# Altium footprint library Capacitor2.PcbLib: 60 footprints (part 1 of 4)
Each footprint in its own frame and in the unit in brackets; x right, y up, seen from the top. Pads: shape width x height; smd on the part's side, far side on the other; paste and mask are expansions set on the pad; w line width, h text height; cw(c..) or ccw(c..) is an arc to the next point about the centre after c.
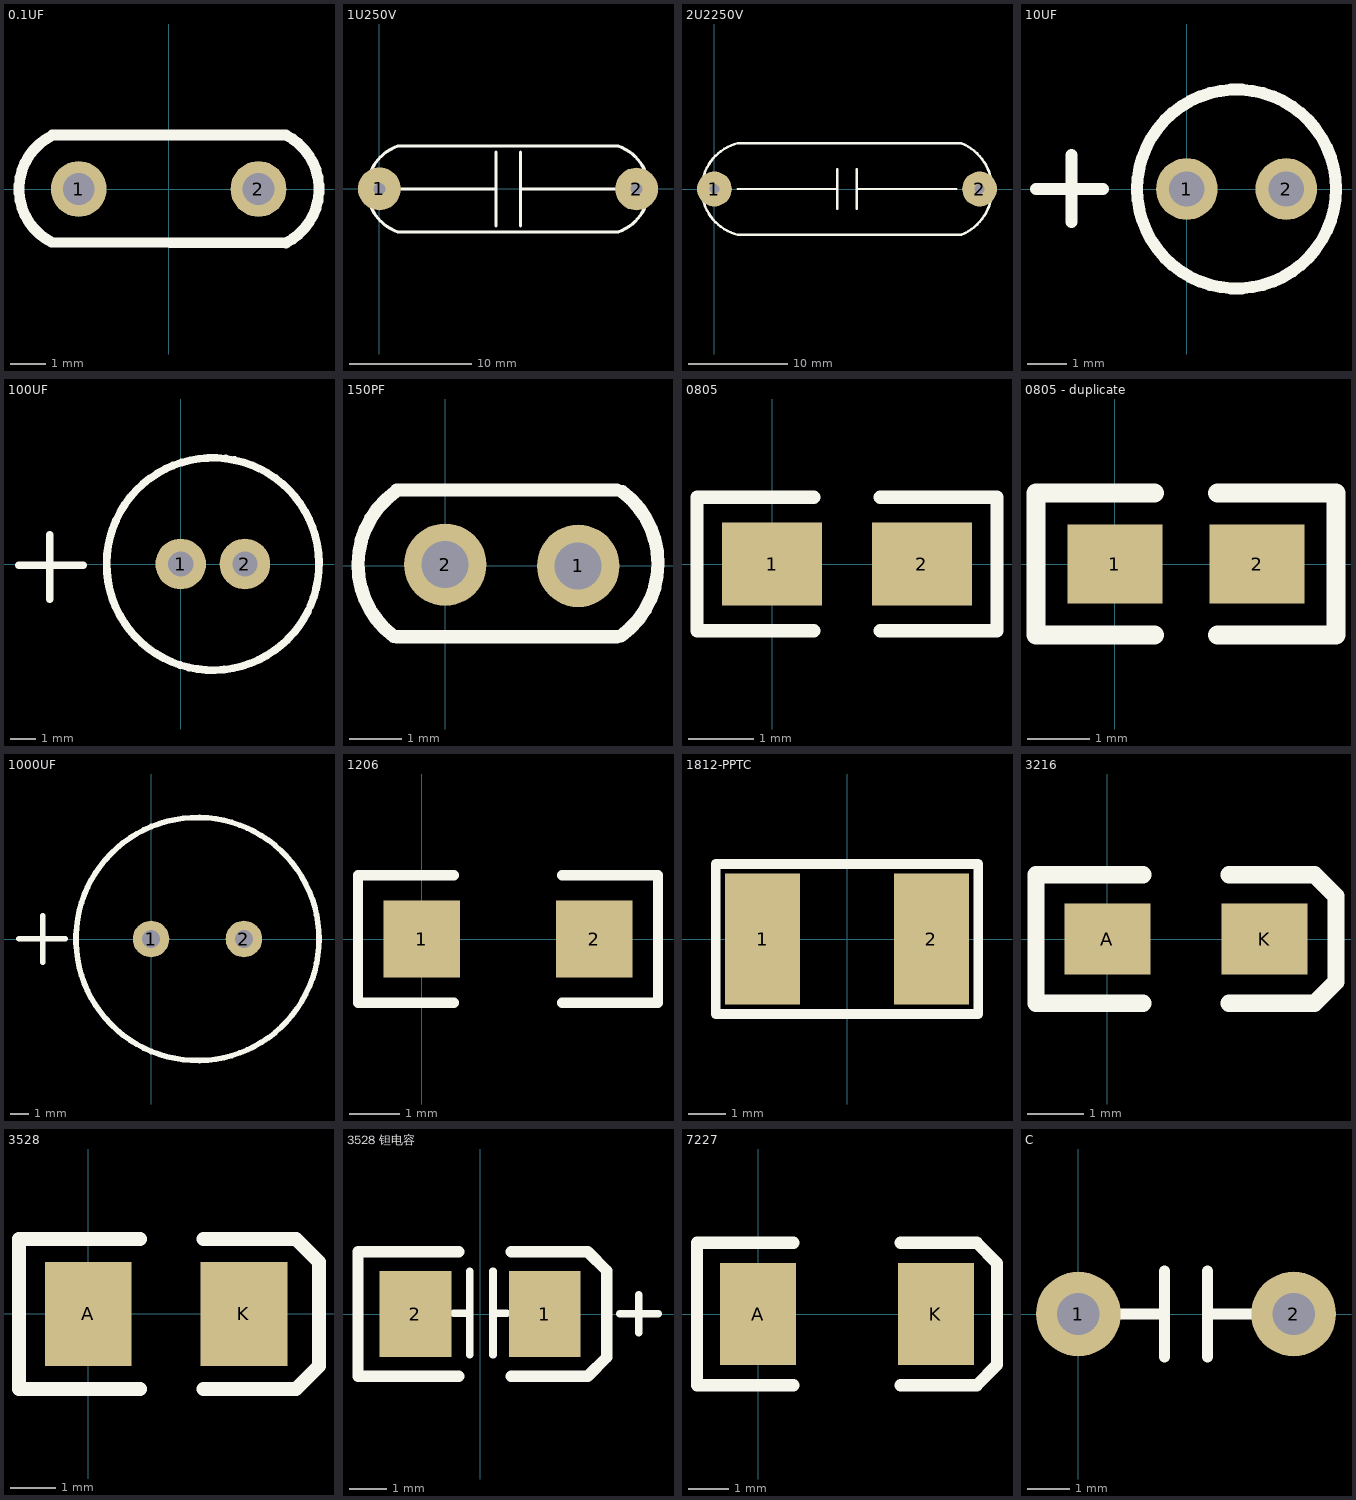
[diagram p0: the footprints below, top view; thin cyan lines are the x and y axes]

## 0.1UF [mil]
pads (2):
  round 62 hole 35.43: 1(-100,0) 2(100,0)
Top Overlay:
  lines w12: -130.04,59.28 ccw(c-100,0) -130.04,-59.28 130.54,-59.99 ccw(c100,0) 130.54,59.99 -129.42,60.22

## 1U250V [mm]
pads (2):
  round 3.5 hole 1: 1(0,0) 2(21.007,-0.01)
Top Overlay:
  lines w0.25: 0.007,-0.01 9.507,-0.01 ; 9.507,-3.01 9.507,2.99 ; 11.507,-3.01 11.507,2.99 ; 11.507,-0.01 21.007,-0.01 ; 1.507,-3.51 cw(c2.707,-0.01) 1.507,3.49 19.507,3.49 cw(c18.307,-0.01) 19.507,-3.51 1.507,-3.51

## 2U2250V [mm]
pads (2):
  round 3.5 hole 1: 1(0,0) 2(26.67,0)
Top Overlay:
  lines w0.25: 2.335,0 12.335,0 ; 12.335,-2 12.335,2 ; 14.335,-2 14.335,2 ; 14.335,0 24.335,0 ; 2.335,-4.6 cw(c3.474,0) 2.335,4.6 24.835,4.6 cw(c22.974,0) 24.835,-4.6 2.335,-4.6

## 10UF [mil]
pads (2):
  round 62 hole 35.43: 1(0,0) 2(100,0)
Top Overlay:
  circle w12: c50,0 r100
  lines w12: -151.69,0 -84.17,0 ; -115.87,-33.27 -115.87,34.25

## 100UF [mm]
pads (2):
  round 2 hole 1: 1(0,0) 2(2.54,0)
Top Overlay:
  lines w0.305: -6.395,-0.05 -3.855,-0.05 ; -5.175,-1.395 -5.175,1.145 ; 5.049,-1.834 cw(c1.27,0) 5.129,-1.658

## 150PF [mil]
pads (2):
  round 62 hole 35.43: 1(100,0) 2(0,1)
Top Overlay:
  lines w10: -38.7,-52.9 cw(c1.97,1) -37.75,55.6 ; -36.42,-53.15 128.94,-53.15 ; -36.42,57.09 128.94,57.09 ; 132.24,-52.64 ccw(c92.52,1.95) 133.18,55.85

## 0805 [mil]
pads (2):
  rect 60x50 smd: 1(0,0) 2(90,0)
Top Overlay:
  lines w8: 25,-40 -45,-40 -45,40 25,40 ; 65,-40 135,-40 135,40 65,40

## 0805 - duplicate [mil]
pads (2):
  rect 60x50 smd: 1(0,0) 2(90,0)
Top Overlay:
  lines w12: 25,-45 -50,-45 -50,45 25,45 ; 65,-45 140,-45 140,45 65,45

## 1000UF [mm]
pads (2):
  round 2 hole 1: 1(0,0) 2(5.08,0)
Top Overlay:
  circle w0.305: c2.54,0 r6.65
  lines w0.305: -7.227,0.025 -4.687,0.025 ; -5.927,-1.27 -5.927,1.27

## 1206 [mil]
pads (2):
  rect 60x60 smd: 1(0,0) 2(135,0)
Top Overlay:
  lines w8: 25,-50 -50,-50 -50,50 25,50 ; 110,-50 185,-50 185,50 110,50

## 1812-PPTC [mm]
height 1
pads (2):
  rect 2x3.5 smd: 1(-2.25,0) 2(2.25,0)
Top Overlay:
  lines w0.254: -3.5,-2 3.5,-2 3.5,2 -3.5,2 -3.5,-2
3D body "User Library-fuse1812.STEP": height 1.32, standoff 0, extent -2.41,-1.61 2.41,1.61

## 3216 [mil]
pads (2):
  rect 60x50 smd: A(0,0) K(110,0)
Top Overlay:
  lines w12: 25,-45 -50,-45 -50,45 25,45 ; 85,-45 145,-45 160,-30 160,30 145,45 85,45

## 3528 [mil]
pads (2):
  rect 75x90 smd: A(0,0) K(135,0)
Top Overlay:
  lines w12: 45,-65 -60,-65 -60,65 45,65 ; 100,-65 180,-65 200,-45 200,45 180,65 100,65

## 3528 钽电容 [mil]
height 118.11
pads (2):
  rect 75x90 smd: 1(67.5,0) 2(-67.5,0)
Top Overlay:
  lines w7.87: 145.85,0.2 185.85,0.2 ; 165.85,-19.8 165.85,20.2
  lines w8: -27.38,0.79 -10.65,0.79 ; -10.65,-42.72 -10.65,44.69 ; 13.56,-42.72 13.56,44.69 ; 13.56,0.79 27.74,0.79
  lines w12: -22.5,-65 -127.5,-65 -127.5,65 -22.5,65 ; 32.5,-65 112.5,-65 132.5,-45 132.5,45 112.5,65 32.5,65
3D body "3528.STEP": height 82.22, standoff -0.46, extent -72.65,-55.51 72.65,55.51

## 7227 [mil]
pads (2):
  rect 75x100 smd: A(0,0) K(175,0)
Top Overlay:
  lines w12: 35,-70 -60,-70 -60,70 35,70 ; 140,-70 215,-70 235,-50 235,50 215,70 140,70

## C [mm]
pads (2):
  round 2 hole 1: 1(0,0) 2(5.08,0)
Top Overlay:
  lines w0.254: 1.016,0 1.524,0 2.032,0 2.032,-1.016 2.032,1.016 ; 3.048,-1.016 3.048,1.016 ; 3.048,0 4.064,0